# Altium schematic symbol library ucc28180-V04.SchLib: 88 symbols (part 2 of 2)
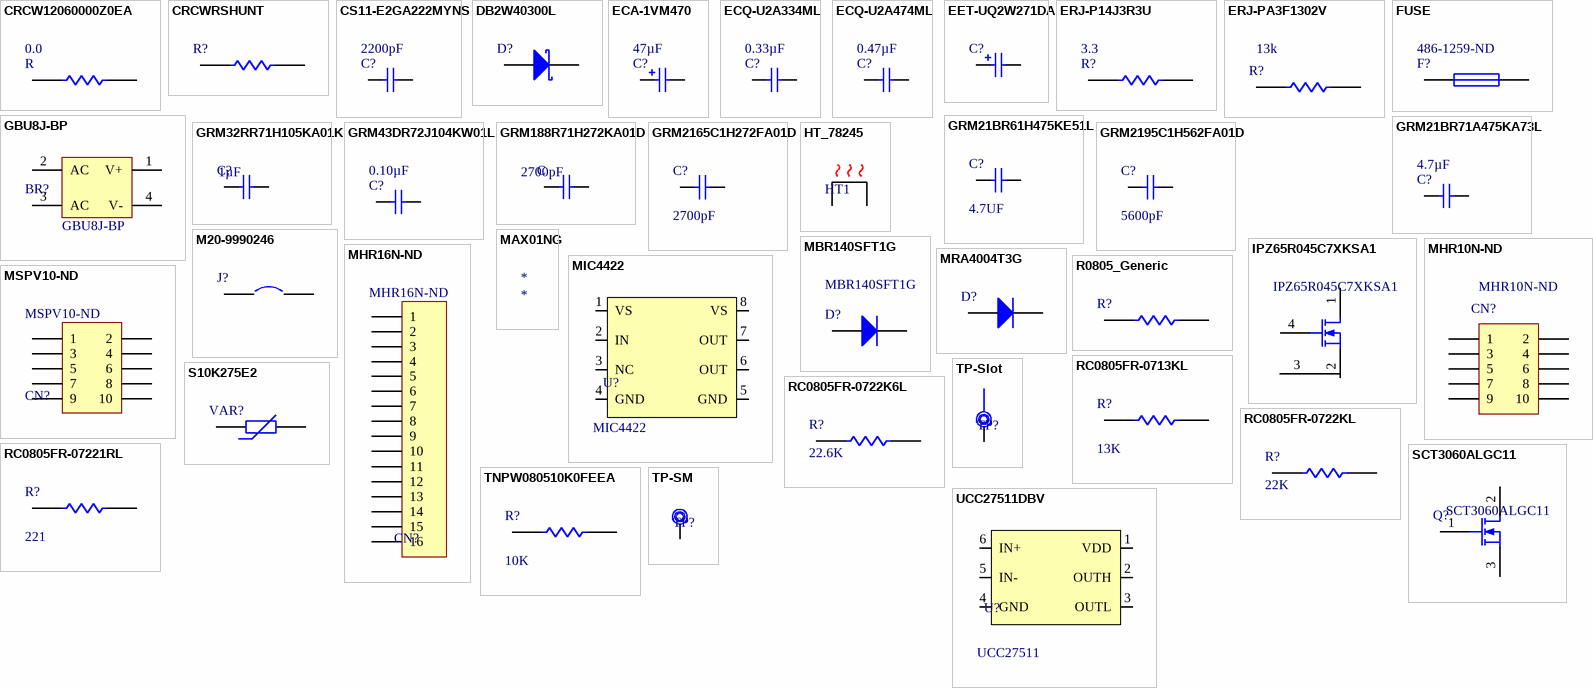
[diagram p3: symbols CRCW12060000Z0EA to UCC27511DBV]

## GRM188R71H272KA01D
designator C  Capacitance: 2700pF  (hidden comment: *)
CAP CER 2700PF 50V X7R 0603; Manufacturer 1: Murata Electronics North America; Manufacturer Part Number 1: GRM188R71H272KA01D; Category 1: Capacitors; Tolerance: ±10%; Supplier 1: Digi-Key; Supplier Part Number 1: 490-1502-6-ND; RoHS 1: RoHS Compliant; Description 1: CAP CER 2700PF 50V X7R 0603; Stock 1: 42465; Pricing 1: 1=0.1, 10=0.064, 25=0.0452, 50=0.0344, 100=0.0292, 250=0.02384, 500=0.0204, 1000=0.0159 (USD); Packaging: Digi-Reel®; Part Status: Active; Voltage - Rated: 50V; Temperature Coefficient: X7R; Operating Temperature: -55°C ~ 125°C; Features: -; Ratings: -; Applications: General Purpose; Mounting Type: Surface Mount, MLCC; Package / Case: 0603 (1608 Metric); Size / Dimension: 0.063" L x 0.031" W (1.60mm x 0.80mm); Height - Seated (Max): -; Thickness (Max): 0.035" (0.90mm); Lead Spacing: -; Lead Style: -; ComponentLink1URL: http://www.murata.com/~/media/webrenewal/support/library/catalog/products/capacitor/mlcc/c02e.pdf; ComponentLink1Description: http://www.murata.com/~/media/webrenewal/support/library/catalog/products/capacitor/mlcc/c02e.pdf
footprint CAP0603
pins: 1, 2

## GRM2165C1H272FA01D
designator C?  Capacitance: 2700pF  (hidden comment: *)
CAP CER 2700PF 50V C0G/NP0 0805; Manufacturer: Murata Electronics North America; Manufacturer Part Number: GRM2165C1H272FA01D; Tolerance: ±1%; Temperature Coefficient: C0G, NP0; Supplier 1: Digi-Key; RoHS: RoHS Compliant; Category: Capacitors; Stock 1: 4028; Pricing 1: 1=0.39, 10=0.271, 100=0.1624, 500=0.12182, 1000=0.10287 (USD); Packaging: Cut Tape (CT); Part Status: Active; Voltage - Rated: 50V; Operating Temperature: -55°C ~ 125°C; Features: -; Ratings: -; Applications: General Purpose; Mounting Type: Surface Mount, MLCC; Package / Case: 0805 (2012 Metric); Size / Dimension: 0.079" L x 0.049" W (2.00mm x 1.25mm); Height - Seated (Max): -; Thickness (Max): 0.028" (0.70mm); Lead Spacing: -; Lead Style: -; ComponentLink1URL: http://www.murata.com/~/media/webrenewal/support/library/catalog/products/capacitor/mlcc/c02e.pdf; ComponentLink1Description: http://www.murata.com/~/media/webrenewal/support/library/catalog/products/capacitor/mlcc/c02e.pdf; Supplier Part Number 1: 490-11543-1-ND
footprint CAP0805_NEW (SMD_Capacitor)
pins: 1, 2

## GRM2195C1H562FA01D
designator C?  Capacitance: 5600pF  (hidden comment: *)
CAP CER 5600PF 50V C0G/NP0 0805; Manufacturer: Murata Electronics North America; Manufacturer Part Number: GRM2195C1H562FA01D; Tolerance: ±1%; Temperature Coefficient: C0G, NP0; Supplier 1: Digi-Key; RoHS: RoHS Compliant; Category: Capacitors; Stock 1: 17402; Pricing 1: 1=0.46, 10=0.323, 100=0.2124, 500=0.15736, 1000=0.13376 (USD); Packaging: Cut Tape (CT); Part Status: Active; Voltage - Rated: 50V; Operating Temperature: -55°C ~ 125°C; Features: -; Ratings: -; Applications: General Purpose; Mounting Type: Surface Mount, MLCC; Package / Case: 0805 (2012 Metric); Size / Dimension: 0.079" L x 0.049" W (2.00mm x 1.25mm); Height - Seated (Max): -; Thickness (Max): 0.037" (0.95mm); Lead Spacing: -; Lead Style: -; ComponentLink1URL: http://www.murata.com/~/media/webrenewal/support/library/catalog/products/capacitor/mlcc/c02e.pdf; ComponentLink1Description: http://www.murata.com/~/media/webrenewal/support/library/catalog/products/capacitor/mlcc/c02e.pdf; Supplier Part Number 1: 490-8299-1-ND
footprint CAP0805_NEW (SMD_Capacitor)
pins: 1, 2

## HT_78245
designator HT1  (value not drawn)
footprint HT-78245 (Aavid Thermalloy Heatsink)

## IPZ65R045C7XKSA1
designator ?
MOSFET N-CH 650V 46A TO247-4; Manufacturer: Infineon Technologies; FET Type: N-Channel; Current - Continuous Drain (Id) @ 25°C: 46A (Tc); Drive Voltage (Max Rds On,  Min Rds On): 10V; Vgs(th) (Max) @ Id: 4V @ 1.25mA; Gate Charge (Qg) (Max) @ Vgs: 93nC @ 10V; Input Capacitance (Ciss) (Max) @ Vds: 4340pF @ 400V; Vgs (Max): ±20V; Power Dissipation (Max): 227W (Tc); Rds On (Max) @ Id, Vgs: 45 mOhm @ 24.9A, 10V; Supplier 1: Digi-Key; RoHS: RoHS Compliant; Category: Discrete Semiconductor Products; Stock 1: 229; Pricing 1: 1=13.1, 10=12.035, 100=10.1646, 500=9.04212 (USD); Packaging: Tube; Part Status: Active; Technology: MOSFET (Metal Oxide); Drain to Source Voltage (Vdss): 650V; FET Feature: -; Operating Temperature: -55°C ~ 150°C (TJ); Mounting Type: Through Hole; Supplier Device Package: PG-TO247; Package / Case: TO-247-4; ComponentLink1URL: http://www.infineon.com/dgdl/DS_IPZ65R045C7_2_0.pdf?folderId=db3a30431ff98815012019af55de3f2c&fileId=db3a30433e5a5024013e6a50664963da; ComponentLink1Description: http://www.infineon.com/dgdl/DS_IPZ65R045C7_2_0.pdf?folderId=db3a30431ff98815012019af55de3f2c&fileId=db3a30433e5a5024013e6a50664963da; Supplier Part Number 1: IPZ65R045C7XKSA1-ND; Manufacturer Part Number: IPZ65R045C7XKSA1
pins: 1 D, 2 S, 3 DS, 4 G

## M20-9990246
designator J?  (value not drawn)
SIL VERTICAL PC TAIL PIN HEADER; Manufacturer 1: Harwin Inc.; Manufacturer Part Number 1: M20-9990246; Category 1: Connectors, Interconnects; Connector Type: Header, Unshrouded, Breakaway; Number of Positions: 2; Number of Positions Loaded: All; Pitch: 0.100" (2.54mm); Supplier 1: Digi-Key; Supplier Part Number 1: 952-2262-ND; RoHS 1: RoHS Compliant; Description 1: SIL VERTICAL PC TAIL PIN HEADER; Stock 1: 66533; Pricing 1: 1=0.11, 10=0.099, 100=0.0609, 500=0.0504, 1000=0.0441, 5000=0.0378, 10000=0.03675 (USD); Packaging: Bulk; Part Status: Active; Contact Type: Male Pin; Number of Rows: 1; Row Spacing: -; Contact Mating Length: 0.240" (6.10mm); Mounting Type: Through Hole; Termination: Solder; Fastening Type: -; Features: -; Contact Finish: Tin; Contact Finish Thickness: -; Color: Black; ComponentLink1URL: https://cdn.harwin.com/pdfs/M20-999.pdf; ComponentLink1Description: https://cdn.harwin.com/pdfs/M20-999.pdf
footprint JUMPER
pins: 1, 2

## MAX01NG
designator *
MAX CLIP TO-220/MAX220 LOW-FORCE; Manufacturer 1: Aavid Thermalloy; Manufacturer Part Number 1: MAX01NG; Category 1: Fans, Thermal Management; Accessory Type: Clips; For Use With/Related Products: Max Clip System™; Supplier 1: Digi-Key; Supplier Part Number 1: MAX01NG-ND; RoHS 1: RoHS Compliant; Description 1: MAX CLIP TO-220/MAX220 LOW-FORCE; Stock 1: 10909; Pricing 1: 1=0.2, 10=0.187, 25=0.1772, 50=0.1726, 100=0.1702, 250=0.15856, 500=0.14924, 1000=0.13526, 5000=0.13059 (USD); Part Status: Active; ComponentLink1URL: http://www.aavid.com/sites/default/files/products/boardlevel/aavid-standard-heatsinks.pdf; ComponentLink1Description: http://www.aavid.com/sites/default/files/products/boardlevel/aavid-standard-heatsinks.pdf

## MBR140SFT1G
designator D?  Manufacturer Part Number: MBR140SFT1G  (hidden comment: *)
DIODE SCHOTTKY 40V 1A SOD123L; Manufacturer: ON Semiconductor; Voltage - Forward (Vf) (Max) @ If: 550mV @ 1A; Speed: Fast Recovery =< 500ns, > 200mA (Io); Current - Reverse Leakage @ Vr: 500µA @ 40V; Supplier 1: Digi-Key; RoHS: RoHS Compliant; Category: Discrete Semiconductor Products; Stock 1: 0; Pricing 1: 3000=0.09129, 6000=0.08622, 15000=0.07861, 30000=0.07354, 75000=0.06593 (USD); Packaging: Tape & Reel (TR); Part Status: Active; Diode Type: Schottky; Voltage - DC Reverse (Vr) (Max): 40V; Current - Average Rectified (Io): 1A; Capacitance @ Vr, F: -; Mounting Type: Surface Mount; Package / Case: SOD-123F; Supplier Device Package: SOD-123L; Operating Temperature - Junction: -55°C ~ 125°C; ComponentLink1URL: http://www.onsemi.com/pub_link/Collateral/MBR140SFT1-D.PDF; ComponentLink1Description: http://www.onsemi.com/pub_link/Collateral/MBR140SFT1-D.PDF; Supplier Part Number 1: MBR140SFT1GOSTR-ND
footprint SODFL360X95-2N (SODFL, 2-Leads, Body 1.65x3.60mm, IPC Medium Density)
pins: 1, 2

## MHR10N-ND
designator CN?  Supplier Part Number 1: MHR10N-ND  (hidden comment: *)
CONN HEADER 10PS R/A LONG LATCH; Manufacturer: 3M; Manufacturer Part Number: N3793-5302RB; Pitch - Mating: 0.100" (2.54mm); Style: Board to Board or Cable; Shrouding: Shrouded - 4 Wall; Number of Positions: 10; Number of Positions Loaded: All; Contact Length - Mating: 0.240" (6.10mm); Contact Length - Post: 0.112" (2.84mm); Material Flammability Rating: UL94 V-0; Current Rating: 1.75A; Supplier 1: Digi-Key; RoHS: RoHS Compliant; Category: Connectors, Interconnects; Stock 1: 2811; Pricing 1: 1=1.86, 10=1.691, 100=1.449, 500=1.2075, 1000=1.035, 5000=0.9177, 10000=0.897 (USD); Packaging: Bulk; Part Status: Active; Connector Type: Header; Contact Type: Male Pin; Number of Rows: 2; Row Spacing - Mating: 0.100" (2.54mm); Mounting Type: Through Hole, Right Angle; Termination: Solder; Fastening Type: Latch Lock/Eject Hooks, Long; Overall Contact Length: -; Insulation Height: 0.340" (8.64mm); Contact Shape: Square; Contact Finish - Mating: Gold; Contact Finish Thickness - Mating: 30µin (0.76µm); Contact Finish - Post: Tin; Contact Material: Copper Alloy; Insulation Material: Polycyclohexylenedimethylene Terephthalate (PCT), Polyester, Glass Filled; Features: Keying Slot, Mounting Flange; Operating Temperature: -55°C ~ 105°C; Ingress Protection: -; Insulation Color: Black; Voltage Rating: -; Mated Stacking Heights: -; Contact Finish Thickness - Post: 200µin (5.08µm); Applications: -; ComponentLink1URL: http://multimedia.3m.com/mws/media/22448O/3m-four-wall-header-3000-series-100-x-100-ts-0772.pdf; ComponentLink1Description: http://multimedia.3m.com/mws/media/22448O/3m-four-wall-header-3000-series-100-x-100-ts-0772.pdf
footprint 3M15452 (CONN HEADER 10POS DL R/A GOLD)
pins: 1, 2, 3, 4, 5, 6, 7, 8, 9, 10

## MHR16N-ND
designator CN?  Supplier Part Number 1: MHR16N-ND  (hidden comment: *)
CONN HEADER 16PS R/A LONG LATCH; Manufacturer: 3M; Manufacturer Part Number: N3408-5302RB; Pitch - Mating: 0.100" (2.54mm); Style: Board to Board or Cable; Shrouding: Shrouded - 4 Wall; Number of Positions: 16; Number of Positions Loaded: All; Contact Length - Mating: 0.240" (6.10mm); Contact Length - Post: 0.112" (2.84mm); Material Flammability Rating: UL94 V-0; Current Rating: 1.75A; Supplier 1: Digi-Key; RoHS: RoHS Compliant; Category: Connectors, Interconnects; Stock 1: 1152; Pricing 1: 1=2.6, 10=2.496, 100=2.08, 500=1.768, 1000=1.508, 5000=1.352 (USD); Packaging: Tray; Part Status: Active; Connector Type: Header; Contact Type: Male Pin; Number of Rows: 2; Row Spacing - Mating: 0.100" (2.54mm); Mounting Type: Through Hole, Right Angle; Termination: Solder; Fastening Type: Latch Lock/Eject Hooks, Long; Overall Contact Length: -; Insulation Height: 0.340" (8.64mm); Contact Shape: Square; Contact Finish - Mating: Gold; Contact Finish Thickness - Mating: 30µin (0.76µm); Contact Finish - Post: Tin; Contact Material: Copper Alloy; Insulation Material: Polycyclohexylenedimethylene Terephthalate (PCT), Polyester, Glass Filled; Features: Keying Slot, Mounting Flange; Operating Temperature: -55°C ~ 105°C; Ingress Protection: -; Insulation Color: Black; Voltage Rating: -; Mated Stacking Heights: -; Contact Finish Thickness - Post: 200µin (5.08µm); Applications: -; ComponentLink1URL: http://multimedia.3m.com/mws/media/22448O/3m-four-wall-header-3000-series-100-x-100-ts-0772.pdf; ComponentLink1Description: http://multimedia.3m.com/mws/media/22448O/3m-four-wall-header-3000-series-100-x-100-ts-0772.pdf
pins: 1, 2, 3, 4, 5, 6, 7, 8, 9, 10, 11, 12, 13, 14, 15, 16

## MIC4422
designator U?  Part number: MIC4422  (hidden comment: *)
footprint SOIC127P600X163-8N (SOIC, 8-Leads, Body 4.90x3.90mm, Pitch 1.27mm, IPC Medium Density)
pins: 1 VS, 2 IN, 3 NC, 4 GND, 5 GND, 6 OUT, 7 OUT, 8 VS

## MRA4004T3G
designator D?  (value not drawn)
footprint MRA4004T3G (Diode_SMA)
pins: 1, 2

## MSPV10-ND
designator CN?  Supplier Part Number 1: MSPV10-ND  (hidden comment: *)
CONN SOCKET PCB VERT 10POS .1"; Manufacturer: 3M; Manufacturer Part Number: 8510-4500PL; Connector Type: Receptacle; Style: Board to Board or Cable; Number of Positions: 10; Number of Positions Loaded: All; Pitch - Mating: 0.100" (2.54mm); Contact Length - Post: 0.110" (2.79mm); Material Flammability Rating: UL94 V-0; Current Rating: 1A; Voltage Rating: 1000V; Supplier 1: Digi-Key; RoHS: RoHS Compliant; Category: Connectors, Interconnects; Stock 1: 448; Pricing 1: 1=3.03, 10=2.904, 100=2.42, 500=2.057, 1000=1.7545, 5000=1.573 (USD); Packaging: Bulk; Part Status: Active; Contact Type: Female Socket; Number of Rows: 2; Row Spacing - Mating: 0.100" (2.54mm); Mounting Type: Through Hole; Termination: Kinked Pin, Solder; Fastening Type: Push-Pull; Contact Finish - Mating: Gold; Contact Finish Thickness - Mating: 12µin (0.30µm); Insulation Color: Gray; Insulation Height: 0.425" (10.80mm); Operating Temperature: -55°C ~ 105°C; Contact Finish - Post: Gold; Mated Stacking Heights: -; Ingress Protection: -; Features: Polarizing Key; Applications: -; Insulation Material: Polybutylene Terephthalate (PBT), Glass Filled; Contact Shape: Square; Contact Material: Copper Alloy; Contact Finish Thickness - Post: Flash; ComponentLink1URL: http://multimedia.3m.com/mws/media/22252O/3mtm-100-in-plr-bmskt-100x-100ctrbmp-strt-sldr-tls-ts0413.pdf; ComponentLink1Description: http://multimedia.3m.com/mws/media/22252O/3mtm-100-in-plr-bmskt-100x-100ctrbmp-strt-sldr-tls-ts0413.pdf
footprint MSV10-ND (CONN SOCKET PCB VERT 10POS .1)
pins: 1, 2, 3, 4, 5, 6, 7, 8, 9, 10

## R0805_Generic
designator R?  (value not drawn)
footprint RES0805_New (SMD_Resistor)
pins: 1, 2

## RC0805FR-0713KL
designator R?  Resistance: 13K  (hidden comment: *)
RES SMD 13K OHM 1% 1/8W 0805; Manufacturer: Yageo; Manufacturer Part Number: RC0805FR-0713KL; Power (Watts): 0.125W, 1/8W; Temperature Coefficient: ±100ppm/°C; Supplier 1: Digi-Key; RoHS: RoHS Compliant; Category: Resistors; Stock 1: 171259; Pricing 1: 1=0.1, 10=0.022, 100=0.0088, 1000=0.00396, 2500=0.00344 (USD); Packaging: Cut Tape (CT); Part Status: Active; Tolerance: ±1%; Composition: Thick Film; Features: Moisture Resistant; Operating Temperature: -55°C ~ 155°C; Package / Case: 0805 (2012 Metric); Supplier Device Package: 0805; Size / Dimension: 0.079" L x 0.049" W (2.00mm x 1.25mm); Height - Seated (Max): 0.024" (0.60mm); Failure Rate: -; ComponentLink1URL: http://www.yageo.com/documents/recent/PYu-RC_Group_51_RoHS_L_7.pdf; ComponentLink1Description: http://www.yageo.com/documents/recent/PYu-RC_Group_51_RoHS_L_7.pdf; Supplier Part Number 1: 311-13.0KCRCT-ND
footprint RES0805_New (SMD_Resistor)
pins: 1, 2

## RC0805FR-0722K6L
designator R?  value 22.6K  (hidden comment: *)
RES SMD 22.6K OHM 1% 1/8W 0805; Manufacturer: Yageo; Manufacturer Part Number: RC0805FR-0722K6L; Power (Watts): 0.125W, 1/8W; Temperature Coefficient: ±100ppm/°C; Supplier 1: Digi-Key; RoHS: RoHS Compliant; Category: Resistors; Stock 1: 45000; Pricing 1: 5000=0.00284, 10000=0.00247, 25000=0.00217, 50000=0.00199, 125000=0.00195 (USD); Packaging: Tape & Reel (TR); Part Status: Active; Tolerance: ±1%; Composition: Thick Film; Features: Moisture Resistant; Operating Temperature: -55°C ~ 155°C; Package / Case: 0805 (2012 Metric); Supplier Device Package: 0805; Size / Dimension: 0.079" L x 0.049" W (2.00mm x 1.25mm); Height - Seated (Max): 0.024" (0.60mm); Failure Rate: -; ComponentLink1URL: http://www.yageo.com/documents/recent/PYu-RC_Group_51_RoHS_L_7.pdf; ComponentLink1Description: http://www.yageo.com/documents/recent/PYu-RC_Group_51_RoHS_L_7.pdf; Supplier Part Number 1: 311-22.6KCRTR-ND
footprint RES0805_New (SMD_Resistor)
pins: 1, 2

## RC0805FR-0722KL
designator R?  value 22K  (hidden comment: *)
RES SMD 22K OHM 1% 1/8W 0805; Manufacturer: Yageo; Manufacturer Part Number: RC0805FR-0722KL; Power (Watts): 0.125W, 1/8W; Temperature Coefficient: ±100ppm/°C; Supplier 1: Digi-Key; RoHS: RoHS Compliant; Category: Resistors; Stock 1: 1085000; Pricing 1: 5000=0.00284, 10000=0.00247, 25000=0.00217, 50000=0.00199, 125000=0.00195 (USD); Packaging: Tape & Reel (TR); Part Status: Active; Tolerance: ±1%; Composition: Thick Film; Features: Moisture Resistant; Operating Temperature: -55°C ~ 155°C; Package / Case: 0805 (2012 Metric); Supplier Device Package: 0805; Size / Dimension: 0.079" L x 0.049" W (2.00mm x 1.25mm); Height - Seated (Max): 0.024" (0.60mm); Failure Rate: -; ComponentLink1URL: http://www.yageo.com/documents/recent/PYu-RC_Group_51_RoHS_L_7.pdf; ComponentLink1Description: http://www.yageo.com/documents/recent/PYu-RC_Group_51_RoHS_L_7.pdf; Supplier Part Number 1: 311-22.0KCRTR-ND
footprint RES0805_New (SMD_Resistor)
pins: 1, 2

## RC0805FR-07221RL
designator R?  Resistance: 221  (hidden comment: *)
RES SMD 221 OHM 1% 1/8W 0805; Manufacturer: Yageo; Manufacturer Part Number: RC0805FR-07221RL; Power (Watts): 0.125W, 1/8W; Temperature Coefficient: ±100ppm/°C; Supplier 1: Digi-Key; RoHS: RoHS Compliant; Category: Resistors; Stock 1: 823293; Pricing 1: 1=0.1, 10=0.022, 100=0.0088, 1000=0.00396, 2500=0.00344 (USD); Packaging: Cut Tape (CT); Part Status: Active; Tolerance: ±1%; Composition: Thick Film; Features: Moisture Resistant; Operating Temperature: -55°C ~ 155°C; Package / Case: 0805 (2012 Metric); Supplier Device Package: 0805; Size / Dimension: 0.079" L x 0.049" W (2.00mm x 1.25mm); Height - Seated (Max): 0.024" (0.60mm); Failure Rate: -; ComponentLink1URL: http://www.yageo.com/documents/recent/PYu-RC_Group_51_RoHS_L_7.pdf; ComponentLink1Description: http://www.yageo.com/documents/recent/PYu-RC_Group_51_RoHS_L_7.pdf; Supplier Part Number 1: 311-221CRCT-ND
footprint RES0805_New (SMD_Resistor)
pins: 1, 2

## S10K275E2
designator VAR?  (value not drawn)
VARISTOR 430V 3.5KA DISC 10MM; Manufacturer 1: EPCOS (TDK); Manufacturer Part Number 1: S10K275E2; Category 1: Circuit Protection; Varistor Voltage (Min): 387V; Varistor Voltage (Max): 473V; Energy: 55J; Number of Circuits: 1; Maximum AC Volts: 275VAC; Maximum DC Volts: 350VDC; Supplier 1: Digi-Key; Supplier Part Number 1: 495-1433-ND; RoHS 1: RoHS Compliant; Description 1: VARISTOR 430V 3.5KA DISC 10MM; Stock 1: 24715; Pricing 1: 1=0.48, 10=0.4, 100=0.3003, 500=0.22022, 1000=0.17017, 5000=0.14515, 10000=0.13514 (USD); Packaging: Bulk; Part Status: Active; Varistor Voltage (Typ): 430V; Current - Surge: 3.5kA; Mounting Type: Through Hole; Package / Case: Disc 10mm; ComponentLink1URL: http://en.tdk.eu/inf/70/db/var_11/SIOV_Leaded_AdvanceD.pdf; ComponentLink1Description: http://en.tdk.eu/inf/70/db/var_11/SIOV_Leaded_AdvanceD.pdf
footprint S10K275E2 (Varistor)
pins: 1, 2

## SCT3060ALGC11
designator Q?  Manufacturer Part Number 1: SCT3060ALGC11  (hidden comment: *)
MOSFET NCH 650V 39A TO247N; Manufacturer 1: Rohm Semiconductor; Category 1: Discrete Semiconductor Products; FET Type: N-Channel; Current - Continuous Drain (Id) @ 25°C: 39A (Tc); Drive Voltage (Max Rds On,  Min Rds On): 18V; Vgs(th) (Max) @ Id: 5.6V @ 6.67mA; Gate Charge (Qg) (Max) @ Vgs: 58nC @ 18V; Input Capacitance (Ciss) (Max) @ Vds: 852pF @ 500V; Vgs (Max): +22V, -4V; Rds On (Max) @ Id, Vgs: 78 mOhm @ 13A, 18V; Supplier 1: Digi-Key; Supplier Part Number 1: SCT3060ALGC11-ND; RoHS 1: RoHS Compliant; Description 1: MOSFET NCH 650V 39A TO247N; Stock 1: 319; Pricing 1: 1=10.35, 1000=7.1288 (USD); Packaging: Tube; Part Status: Active; Technology: SiCFET (Silicon Carbide); Drain to Source Voltage (Vdss): 650V; FET Feature: -; Operating Temperature: 175°C (TJ); Mounting Type: Through Hole; Supplier Device Package: TO-247N; Package / Case: TO-247-3; ComponentLink1URL: http://www.rohm.com/web/global/datasheet/SCT3060AL; ComponentLink1Description: http://www.rohm.com/web/global/datasheet/SCT3060AL
footprint TO-247N (Transistor)
pins: 1 G, 2 D, 3 S

## TNPW080510K0FEEA
designator R?  Resistance: 10K  (hidden comment: *)
RES 10K OHM 1% 1/5W 0805; Manufacturer: Vishay Dale; Manufacturer Part Number: TNPW080510K0FEEA; Power (Watts): 0.2W, 1/5W; Temperature Coefficient: ±25ppm/°C; Supplier 1: Digi-Key; RoHS: RoHS Compliant; Category: Resistors; Stock 1: 5000; Pricing 1: 1=0.42, 10=0.319, 100=0.134, 1000=0.07392, 2500=0.0693 (USD); Packaging: Cut Tape (CT); Part Status: Active; Tolerance: ±1%; Composition: Thin Film; Features: Anti-Sulfur, Automotive AEC-Q200, Moisture Resistant; Operating Temperature: -55°C ~ 155°C; Package / Case: 0805 (2012 Metric); Supplier Device Package: 0805; Size / Dimension: 0.079" L x 0.049" W (2.00mm x 1.25mm); Height - Seated (Max): 0.022" (0.55mm); Failure Rate: -; ComponentLink1URL: http://www.vishay.com/docs/28758/tnpw_e3.pdf; ComponentLink1Description: http://www.vishay.com/docs/28758/tnpw_e3.pdf; Supplier Part Number 1: 541-3915-1-ND
footprint RES0805_New (SMD_Resistor)
pins: 1, 2

## TP-Slot
designator TP?  (value not drawn)
footprint TP-Slot (Special Test point-Slot)
pins: 1

## TP-SM
designator TP?  (value not drawn)
footprint TP-SM (Test Point-Surface Mount)
pins: 1

## UCC27511DBV
designator U?  IC name: UCC27511  (hidden comment: *)
footprint SOP6
pins: 1 VDD, 2 OUTH (out), 3 OUTL (out), 4 GND, 5 IN- (in), 6 IN+ (in)

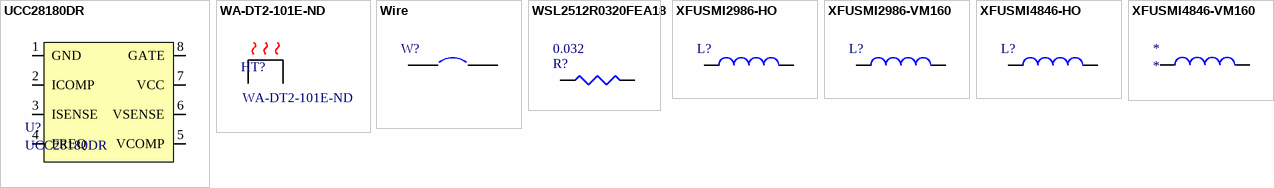
[diagram p2: symbols UCC28180DR to XFUSMI4846-VM160]

## UCC28180DR
designator U?
IC PFC CTRLR AVERAGE CURR 8SOIC; Manufacturer 1: Texas Instruments; Category 1: Integrated Circuits (ICs); Mode: Continuous Conduction (CCM); Frequency - Switching: 18kHz ~ 250kHz; Current - Startup: 75µA; Voltage - Supply: 21V; Supplier 1: Digi-Key; Supplier Part Number 1: 296-44502-2-ND; Manufacturer Part Number 1: UCC28180DR; RoHS 1: RoHS Compliant; Description 1: IC PFC CTRLR AVERAGE CURR 8SOIC; Stock 1: 5000; Pricing 1: 2500=0.50625 (USD); Packaging: Tape & Reel (TR); Part Status: Active; Operating Temperature: -40°C ~ 125°C; Mounting Type: Surface Mount; Package / Case: 8-SOIC (0.154", 3.90mm Width); Supplier Device Package: 8-SOIC; ComponentLink1URL: http://www.ti.com/lit/ds/symlink/ucc28180.pdf; ComponentLink1Description: http://www.ti.com/lit/ds/symlink/ucc28180.pdf
footprint SOP127P600X175-8N (SOP, 8-Leads, Body 4.90x3.90mm, Pitch 1.27mm, IPC Medium Density)
pins: 1 GND, 2 ICOMP, 3 ISENSE, 4 FREQ, 5 VCOMP, 6 VSENSE, 7 VCC, 8 GATE

## WA-DT2-101E-ND
designator HT?  Supplier Part Number 1: WA-DT2-101E-ND  (hidden comment: *)
Manufacturer: Ohmite; Manufacturer Part Number: WA-DT2-101E; Package Cooled: TO-220, TO-247 (Dual); Attachment Method: Clip and PC Pin; Shape: Rectangular, Fins; Power Dissipation @ Temperature Rise: 4W @ 40°C; Thermal Resistance @ Forced Air Flow: 6.0°C/W @ 200 LFM; Thermal Resistance @ Natural: 5°C/W; Material Finish: Black Anodized; Supplier 1: Digi-Key; RoHS: RoHS Compliant; Category: Fans, Thermal Management; Stock 1: 173; Pricing 1: 1=4.43, 10=4.311, 25=4.194, 50=3.961, 100=3.728, 250=3.495, 500=3.3785, 1000=3.029 (USD); Part Status: Active; Type: Board Level, Vertical; Length: 1.200" (30.48mm); Width: 1.710" (43.43mm); Diameter: -; Height Off Base (Height of Fin): 0.630" (16.00mm); Material: Aluminum; ComponentLink1URL: http://media.digikey.com/pdf/Data%20Sheets/Ohmite%20PDFs/W_Series.pdf; ComponentLink1Description: http://media.digikey.com/pdf/Data%20Sheets/Ohmite%20PDFs/W_Series.pdf
footprint WA-DT2-101E-ND (Heatsunk)

## Wire
designator W?  (value not drawn)
footprint Current Sense Wire
pins: 1, 2

## WSL2512R0320FEA18
designator R?  Resistance (Ohms): 0.032  (hidden comment: *)
RES SMD 0.032 OHM 1% 2W 2512; Manufacturer 1: Vishay Dale; Manufacturer Part Number 1: WSL2512R0320FEA18; Category 1: Resistors; Temperature Coefficient: ±75ppm/°C; Supplier 1: Digi-Key; Supplier Part Number 1: WSLH-.032CT-ND; RoHS 1: RoHS Compliant; Description 1: RES SMD 0.032 OHM 1% 2W 2512; Stock 1: 4983; Pricing 1: 1=1.69, 10=1.5, 25=1.3796, 50=1.2584, 100=1.089, 250=0.9196, 500=0.7744, 1000=0.64372 (USD); Packaging: Cut Tape (CT); Part Status: Active; Tolerance: ±1%; Power (Watts): 2W; Composition: Metal Element; Features: Automotive AEC-Q200, Current Sense, Moisture Resistant, Pulse Withstanding; Operating Temperature: -65°C ~ 170°C; Package / Case: 2512 (6432 Metric); Supplier Device Package: 2512; Size / Dimension: 0.250" L x 0.125" W (6.35mm x 3.18mm); Height - Seated (Max): 0.035" (0.89mm); Number of Terminations: 2; Failure Rate: -; ComponentLink1URL: http://www.vishay.com/docs/31057/wslhigh.pdf; ComponentLink1Description: http://www.vishay.com/docs/31057/wslhigh.pdf
footprint RES2512
pins: 1, 2

## XFUSMI2986-HO
designator L?  (value not drawn)
footprint XFUSMI2986-HO (Boost Inductor)
pins: 1, 2

## XFUSMI2986-VM160
designator L?  (value not drawn)
footprint XFUSMI2986-VM-160 (Boost Inductor)
pins: 1, 2

## XFUSMI4846-HO
designator L?  (value not drawn)
footprint XFUSMI4846-HO (Boost Inductor)
pins: 1, 2

## XFUSMI4846-VM160
designator *
footprint XFUSMI4846-VM-160 (Boost Inductor)
pins: 1, 2